# EAGLE library part EDAC-307-44POS (library 9_Dynalec)
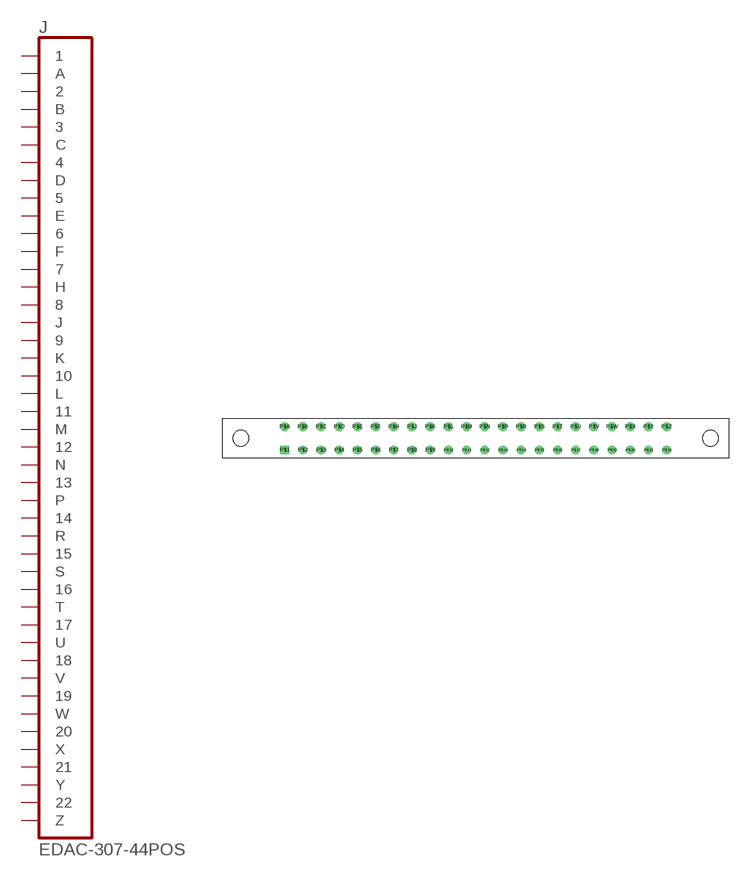
[diagram p3: symbol with the pads of EDAC_307_156-CE; footprint EDAC_307_156-CE]

Designator prefix J

## EDAC-307-44POS  [EDAC_307_156-CE]
P$1  1  pas
P$2  2  pas
P$3  3  pas
P$4  4  pas
P$5  5  pas
P$6  6  pas
P$7  7  pas
P$8  8  pas
P$9  9  pas
P$10  10  pas
P$11  11  pas
P$12  12  pas
P$13  13  pas
P$14  14  pas
P$15  15  pas
P$16  16  pas
P$17  17  pas
P$18  18  pas
P$19  19  pas
P$20  20  pas
P$21  21  pas
P$22  22  pas
P$A  A  pas
P$B  B  pas
P$C  C  pas
P$D  D  pas
P$E  E  pas
P$F  F  pas
P$H  H  pas
P$J  J  pas
P$K  K  pas
P$L  L  pas
P$M  M  pas
P$N  N  pas
P$P  P  pas
P$R  R  pas
P$S  S  pas
P$T  T  pas
P$U  U  pas
P$V  V  pas
P$W  W  pas
P$X  X  pas
P$Y  Y  pas
P$Z  Z  pas

## Footprint EDAC_307_156-CE (pad centres in mm)
drill 1.27 square: P$1 0,0
drill 1.27: P$2 3.962,0; P$3 7.925,0; P$4 11.887,0; P$5 15.85,0; P$6 19.812,0; P$7 23.774,0; P$8 27.737,0; P$9 31.699,0; P$10 35.662,0; P$11 39.624,0; P$12 43.586,0; P$13 47.549,0; P$14 51.511,0; P$15 55.474,0; P$16 59.436,0; P$17 63.398,0; P$18 67.361,0; P$19 71.323,0; P$20 75.286,0; P$21 79.248,0; P$22 83.21,0; P$A 0,5.08; P$B 3.962,5.08; P$C 7.925,5.08; P$D 11.887,5.08; P$E 15.85,5.08; P$F 19.812,5.08; P$H 23.774,5.08; P$J 27.737,5.08; P$K 31.699,5.08; P$L 35.662,5.08; P$M 39.624,5.08; P$N 43.586,5.08; P$P 47.549,5.08; P$R 51.511,5.08; P$S 55.474,5.08; P$T 59.436,5.08; P$U 63.398,5.08; P$V 67.361,5.08; P$W 71.323,5.08; P$X 75.286,5.08; P$Y 79.248,5.08; P$Z 83.21,5.08
hole 3.454 at -9.55,2.54
hole 3.454 at 92.761,2.54